# EAGLE library part HDR2X4-F (library Cynara-Connectors)
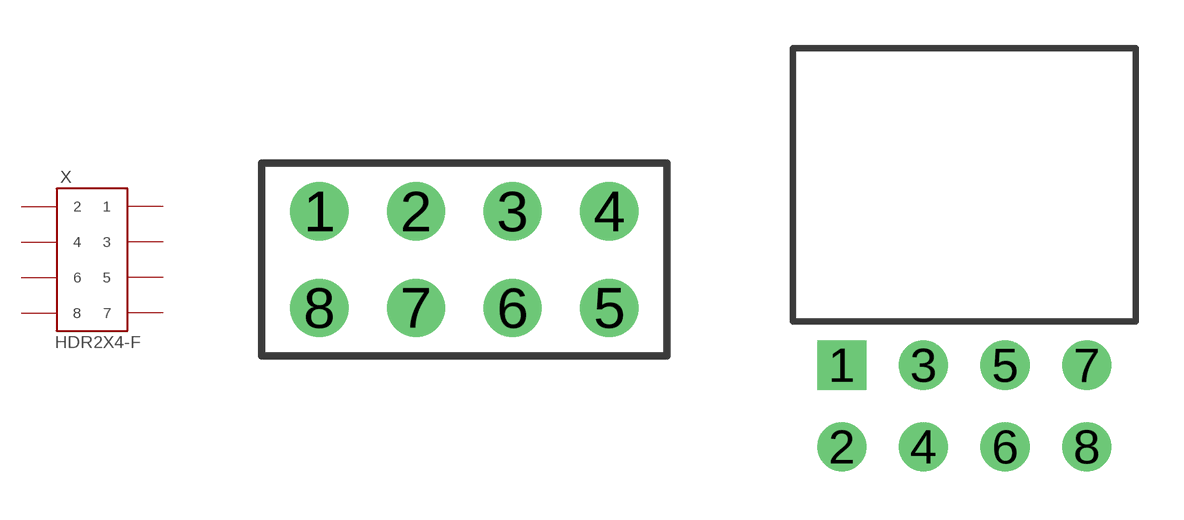
[diagram p12: symbol with the pads of 61300821821; footprints 61300821821, 613008243121]

Designator prefix X

## HDR2X4-F-VERT (MANUFACTURER: WURTH; MANUFACTURERPARTNO: 61300821821; VALUE: SOCK2X4)  [61300821821]
1  1  pas
2  2  pas
3  3  pas
4  4  pas
5  5  pas
6  6  pas
7  7  pas
8  8  pas

## HDR2X4-F-RA (MANUFACTURER: WURTH; MANUFACTURERPARTNO: 613008243121; VALUE: SOCK2X4 RA)  [613008243121]
Pads as for 61300821821

## Footprint 61300821821 (pad centres in mm)
WR-PHD 2.54mm Dual Socket Header, 8 Pins
drill 1.02: 1 -3.81,1.27; 2 -1.27,1.27; 3 1.27,1.27; 4 3.81,1.27; 5 3.81,-1.27; 6 1.27,-1.27; 7 -1.27,-1.27; 8 -3.81,-1.27

## Footprint 613008243121 (pad centres in mm)
WR-PHD Angled Dual Socket Header, 8 Pins
drill 1.02 square: 1 -3.81,0
drill 1.02: 2 -3.81,-2.54; 3 -1.27,0; 4 -1.27,-2.54; 5 1.27,0; 6 1.27,-2.54; 7 3.81,0; 8 3.81,-2.54